# Altium schematic symbol library 15pin_1mm_FPC_schematic.SchLib: 1 symbol
Pins are listed as number, name and electrical type; pins without a type are passive.

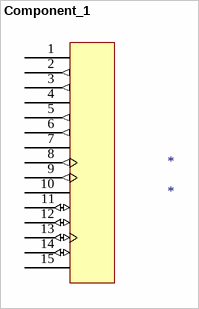
[diagram p0: symbol Component_1]

## Component_1
designator *
footprint 15pin_1mm_FPC
pins: 1 (power), 2 (out), 3 (out), 4 (power), 5 (out), 6 (out), 7 (power), 8 (out), 9 (out), 10 (power), 11 (io), 12 (io), 13 (io), 14 (io), 15 (power)